# EAGLE library part TFTLCDPCB (library ese323)
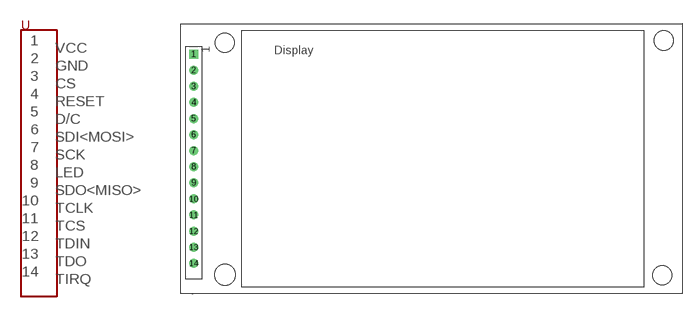
[diagram p1: symbol with the pads of TFTLCDPCB; footprint TFTLCDPCB]

Designator prefix -

## TFTLCDPCB  [TFTLCDPCB]
1  VCC  pwr
2  GND  pwr
3  CS  out
4  RESET  in
5  D/C  out
6  SDI<MOSI>  out
7  SCK  out
8  LED  in
9  SDO<MISO>  in
10  TCLK  in
11  TCS  in
12  TDIN  in
13  TDO  in
14  TIRQ  in

## Footprint TFTLCDPCB (pad centres in mm)
FEMALE HEADER
drill 0.9 pad 1.422 square: 1 0,33.02
drill 0.9 pad 1.422: 2 0,30.48; 3 0,27.94; 4 0,25.4; 5 0,22.86; 6 0,20.32; 7 0,17.78; 8 0,15.24; 9 0,12.7; 10 0,10.16; 11 0,7.62; 12 0,5.08; 13 0,2.54; 14 0,0